# Altium schematic symbol library IC_Operational_amp.SchLib: 14 symbols
Pins are listed as number, name and electrical type; pins without a type are passive.

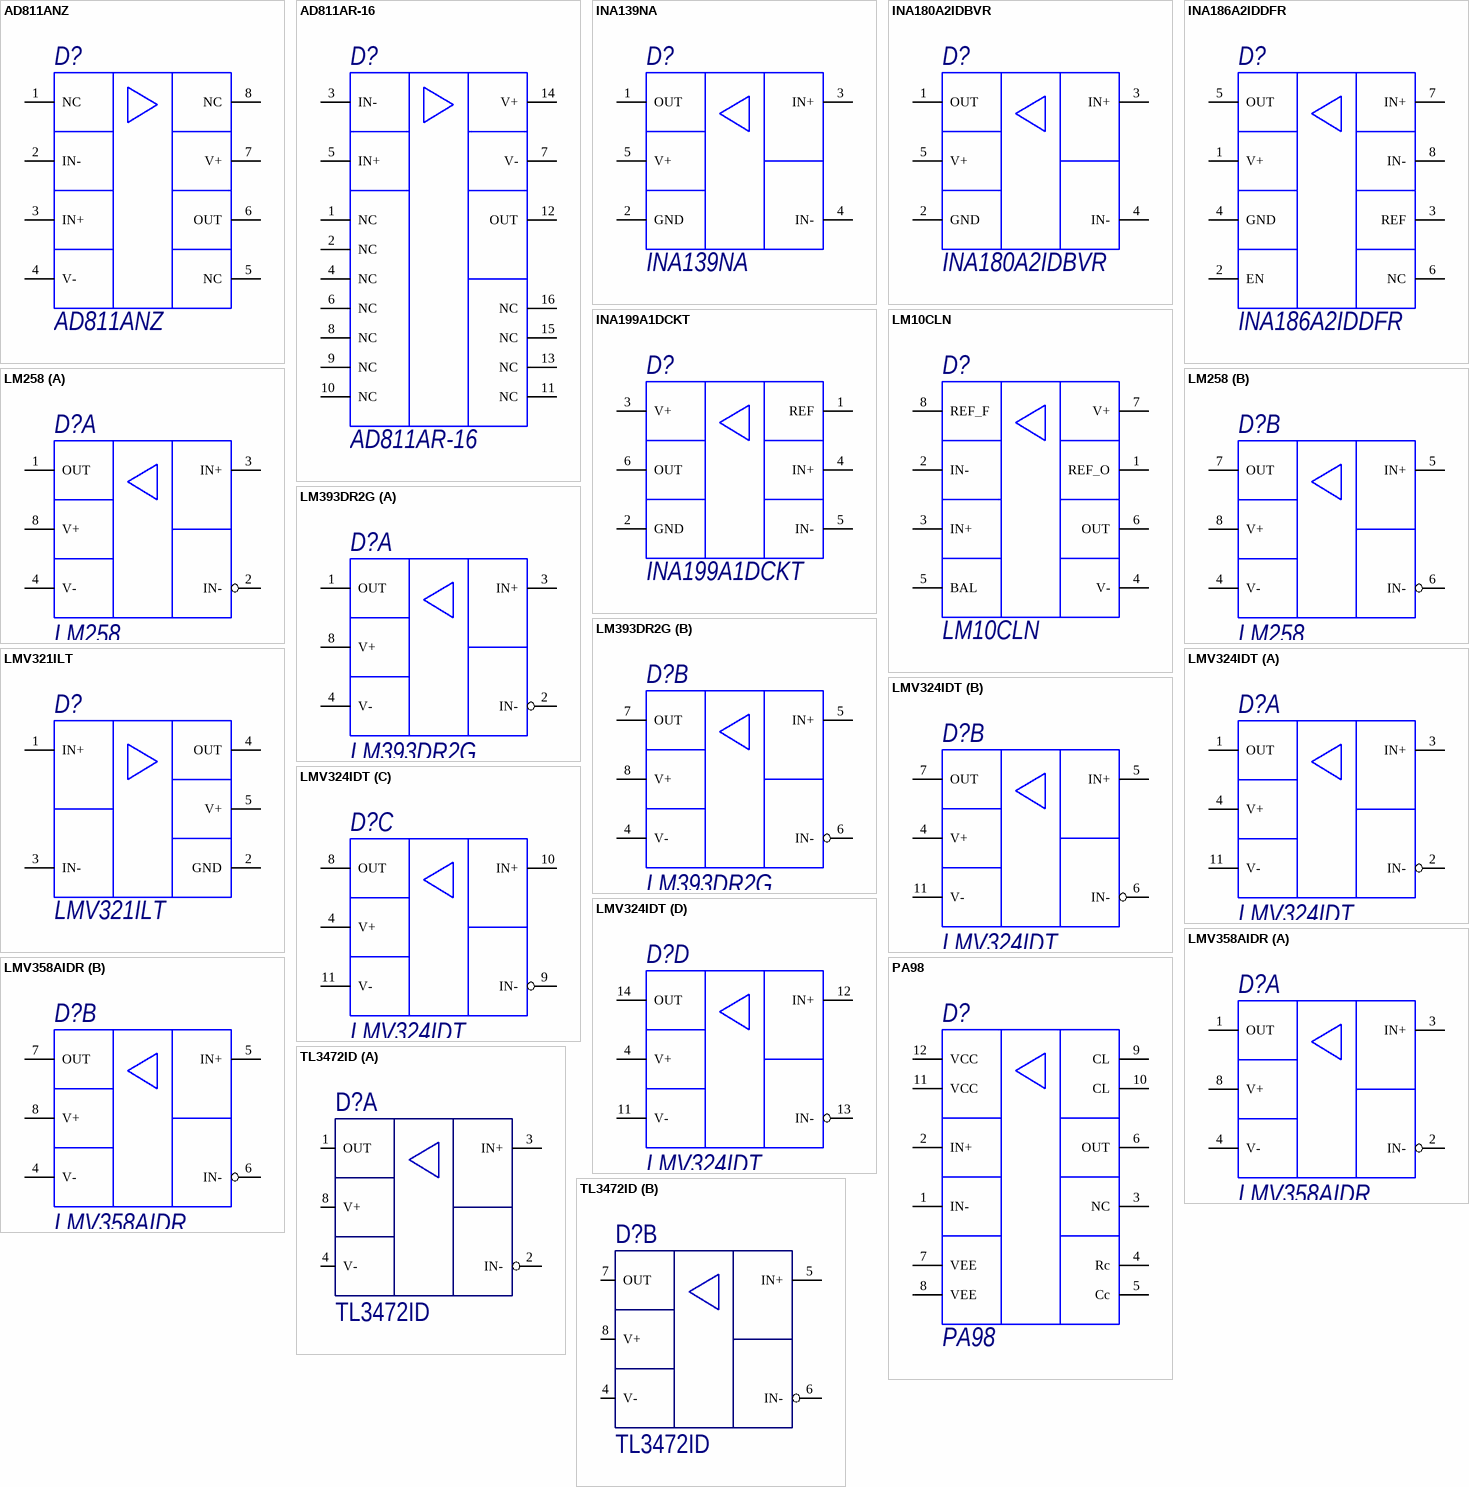
[diagram p0: symbols AD811ANZ to TL3472ID]

## AD811ANZ
designator D?
Микросхема  ОУ; ComponentDescription: =ComponentTypе+', '+Comment+', '+Package; ComponentTypе: Микросхема  ОУ
footprint 8-SOIC (SOIC, 8-Leads, Body 4,90x3,90mm, Pitch 1,27mm, IPC Medium Density)
pins: 1 NC, 2 IN-, 3 IN+, 4 V-, 5 NC, 6 OUT, 7 V+, 8 NC

## AD811AR-16
designator D?
Микросхема  ОУ; ComponentDescription: =ComponentTypе+', '+Comment+', '+Package; ComponentTypе: Микросхема  ОУ
footprint 16-SO(W) (SOIC, 16-Leads, Body 10,30x7,50mm, Pitch 1,27mm, IPC Medium Density)
pins: 1 NC, 2 NC, 3 IN-, 4 NC, 5 IN+, 6 NC, 7 V-, 8 NC, 9 NC, 10 NC, 11 NC, 12 OUT, 13 NC, 14 V+, 15 NC, 16 NC

## INA139NA
designator D?
Микросхема  ОУ; ComponentDescription: =ComponentTypе+', '+Comment+', '+Package; ComponentTypе: Микросхема  ОУ
footprint SOT-23-5 (SOT23, 5-Leads, Body 2,90x2,30mm, Pitch 0,95mm, IPC Medium Density)
pins: 1 OUT, 2 GND, 3 IN+, 4 IN-, 5 V+

## INA180A2IDBVR
designator D?
Микросхема  ОУ; ComponentDescription: =ComponentTypе+', '+Comment+', '+Package; ComponentTypе: Микросхема  ОУ
footprint SOT-23-5 (SOT23, 5-Leads, Body 2,90x2,30mm, Pitch 0,95mm, IPC Medium Density)
pins: 1 OUT, 2 GND, 3 IN+, 4 IN-, 5 V+

## INA186A2IDDFR
designator D?
Микросхема  ОУ; ComponentDescription: =ComponentTypе+', '+Comment+', '+Package; ComponentTypе: Микросхема  ОУ
footprint SOT-23-8 (SOT23, 8-Leads, Body 2,90x2,30mm, Pitch 0,95mm, IPC Medium Density)
pins: 1 V+, 2 EN, 3 REF, 4 GND, 5 OUT, 6 NC, 7 IN+, 8 IN-

## INA199A1DCKT
designator D?
Микросхема  ОУ; ComponentDescription: =ComponentTypе+', '+Comment+', '+Package; ComponentTypе: Микросхема  ОУ
footprint SOT-323-6 (SOTFL, 6-Leads, Body 2,00x2,10mm, Pitch 0,65mm, IPC Medium Density)
pins: 1 REF, 2 GND, 3 V+, 4 IN+, 5 IN-, 6 OUT
1 alternate drawing of the same symbol

## LM10CLN
designator D?
Микросхема  ОУ; ComponentDescription: =ComponentTypе+', '+Comment+', '+Package; ComponentTypе: Микросхема  ОУ
footprint DIP8
pins: 1 REF_O, 2 IN-, 3 IN+, 4 V-, 5 BAL, 6 OUT, 7 V+, 8 REF_F

## LM258
designator D?
Микросхема сдвоенный ОУ; ComponentDescription: =ComponentTypе+', '+Comment+', '+Package; ComponentTypе: Микросхема сдвоенный ОУ
footprint 8-SOIC (SOIC, 8-Leads, Body 4,90x3,90mm, Pitch 1,27mm, IPC Medium Density)
part A pins: 1 OUT, 2 IN-, 3 IN+, 4 V- (power), 8 V+ (power)
part B pins: 4 V- (power), 5 IN+, 6 IN-, 7 OUT, 8 V+ (power)

## LM393DR2G
designator D?
Микросхема сдвоенный компаратор; ComponentDescription: =ComponentTypе+', '+Comment+', '+Package; ComponentTypе: Микросхема сдвоенный компаратор
footprint 8-SOIC (SOIC, 8-Leads, Body 4,90x3,90mm, Pitch 1,27mm, IPC Medium Density)
part A pins: 1 OUT, 2 IN-, 3 IN+, 4 V- (power), 8 V+ (power)
part B pins: 4 V- (power), 5 IN+, 6 IN-, 7 OUT, 8 V+ (power)

## LMV321ILT
designator D?
Микросхема  ОУ; ComponentDescription: =ComponentTypе+', '+Comment+', '+Package; ComponentTypе: Микросхема  ОУ
footprint SOT-23-5 (SOT23, 5-Leads, Body 2,90x2,30mm, Pitch 0,95mm, IPC Medium Density)
pins: 1 IN+, 2 GND, 3 IN-, 4 OUT, 5 V+

## LMV324IDT
designator D?
Микросхема счетверённый ОУ; ComponentDescription: =ComponentTypе+', '+Comment+', '+Package; ComponentTypе: Микросхема счетверённый ОУ
footprint 14-SOIC (SOIC, 14-Leads, Body 8,65x3,90mm, Pitch 1,27mm, IPC Medium Density)
part A pins: 1 OUT, 2 IN-, 3 IN+, 4 V+ (power), 11 V- (power)
part B pins: 4 V+ (power), 5 IN+, 6 IN-, 7 OUT, 11 V- (power)
part C pins: 4 V+ (power), 8 OUT, 9 IN-, 10 IN+, 11 V- (power)
part D pins: 4 V+ (power), 11 V- (power), 12 IN+, 13 IN-, 14 OUT

## LMV358AIDR
designator D?
Микросхема сдвоенный ОУ; ComponentDescription: =ComponentTypе+', '+Comment+', '+Package; ComponentTypе: Микросхема сдвоенный ОУ
footprint 8-SOIC (SOIC, 8-Leads, Body 4,90x3,90mm, Pitch 1,27mm, IPC Medium Density)
part A pins: 1 OUT, 2 IN-, 3 IN+, 4 V- (power), 8 V+ (power)
part B pins: 4 V- (power), 5 IN+, 6 IN-, 7 OUT, 8 V+ (power)

## PA98
designator D?
Микросхема  ОУ; ComponentDescription: =ComponentTypе+', '+Comment+', '+Package; ComponentTypе: Микросхема  ОУ
footprint PA-98
pins: 1 IN-, 2 IN+, 3 NC, 4 Rc, 5 Cc, 6 OUT, 7 VEE, 8 VEE, 9 CL, 10 CL, 11 VCC, 12 VCC

## TL3472ID
designator D?
Микросхема сдвоенный ОУ; ComponentDescription: =ComponentTypе+', '+Comment+', '+Package; ComponentTypе: Микросхема сдвоенный ОУ
footprint 8-SOIC (SOIC, 8-Leads, Body 4,90x3,90mm, Pitch 1,27mm, IPC Medium Density)
part A pins: 1 OUT, 2 IN-, 3 IN+, 4 V- (power), 8 V+ (power)
part B pins: 4 V- (power), 5 IN+, 6 IN-, 7 OUT, 8 V+ (power)